# Altium footprint library footprintLIB.PcbLib: 49 footprints (part 2 of 4)
Each footprint in its own frame and in the unit in brackets; x right, y up, seen from the top. Pads: shape width x height; smd on the part's side, far side on the other; paste and mask are expansions set on the pad; w line width, h text height; cw(c..) or ccw(c..) is an arc to the next point about the centre after c.
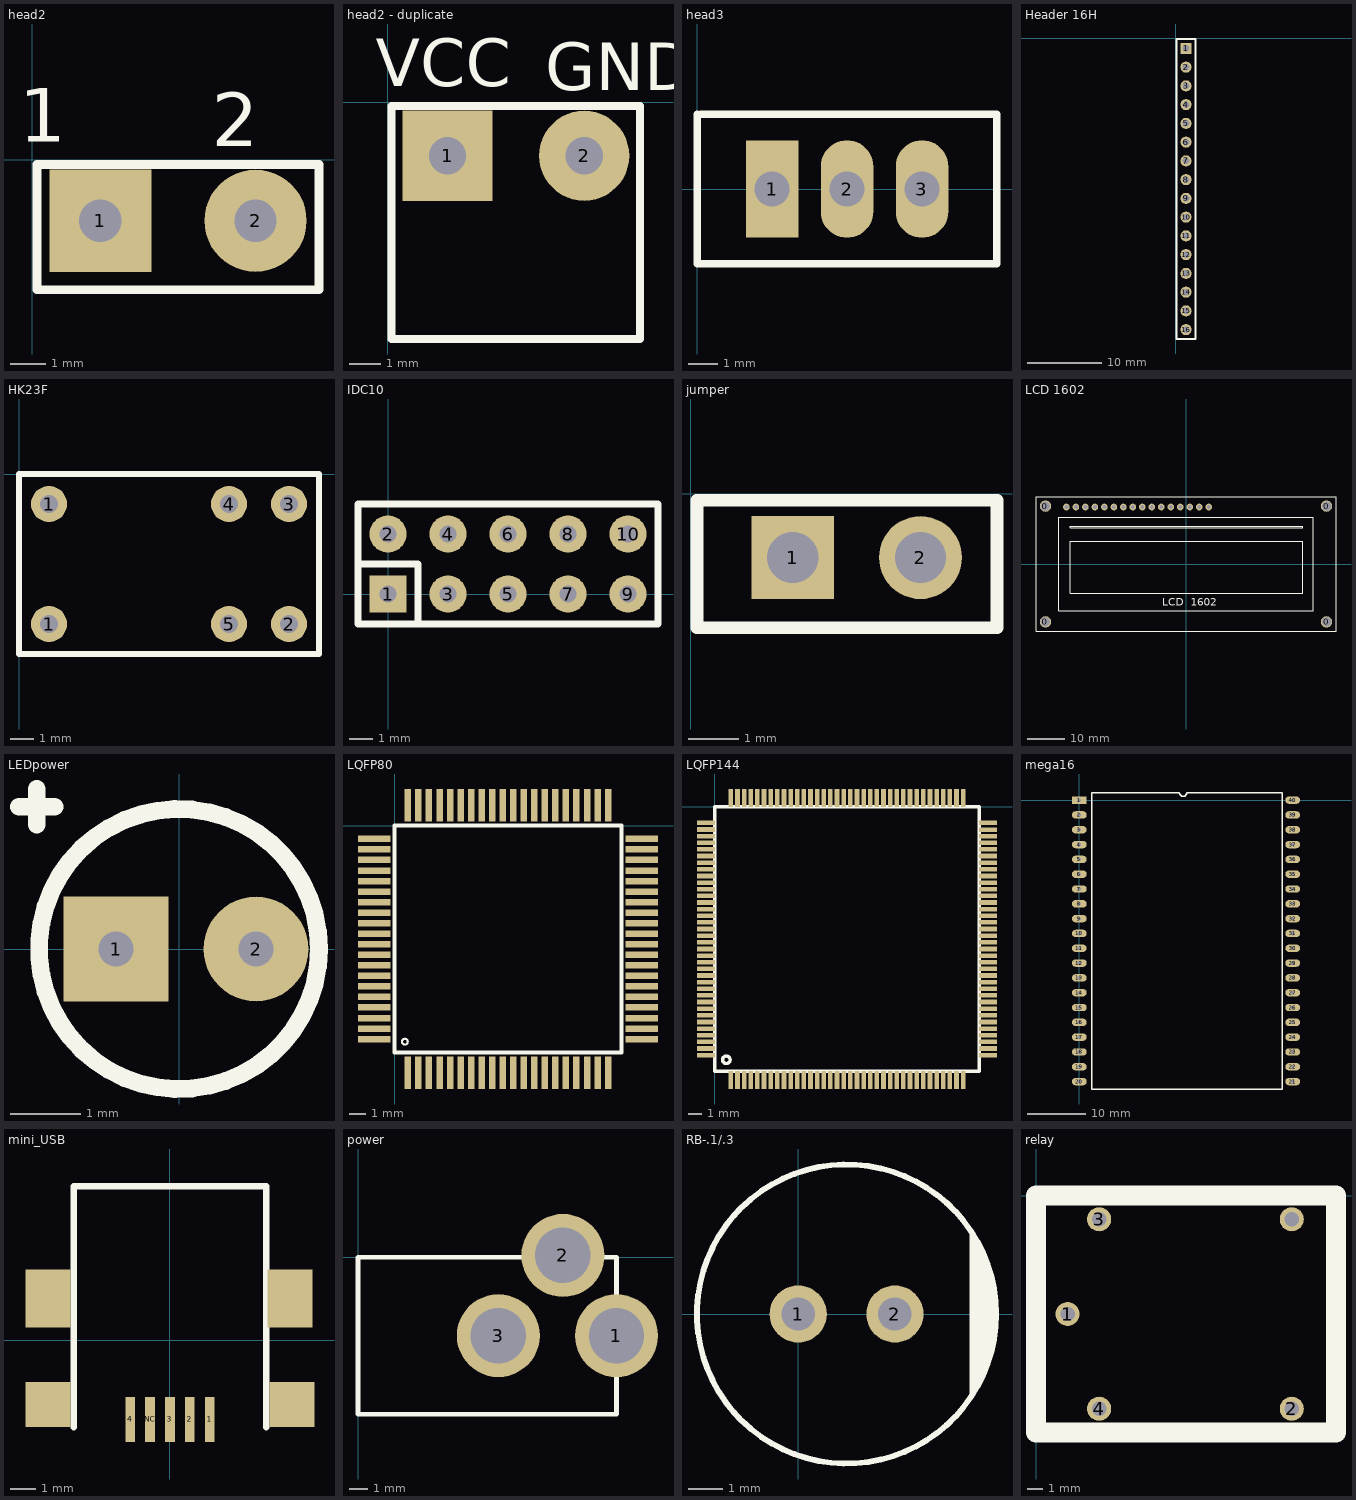
[diagram p1: the footprints below, top view; thin cyan lines are the x and y axes]

## head2 [mm]
pads (2):
  rect 2.9x2.9 hole 1.2: 1(1.927,-1.727)
  round 2.9 hole 1.2: 2(6.327,-1.727)
Top Overlay:
  lines w0.254: 0.127,-3.683 0.127,-0.127 8.127,-0.127 ; 0.128,-3.683 8.128,-3.683 8.128,-0.127
  text "2" at 5.08,0.381 h1.52
  text "1" at -0.381,0.508 h1.52

## head2 - duplicate [mm]
pads (2):
  rect 2.9x2.9 hole 1.2: 1(1.927,-1.727)
  round 2.9 hole 1.2: 2(6.327,-1.727)
Top Overlay:
  lines w0.254: 0.127,-7.627 8.127,-7.627 8.127,-0.127 0.127,-0.127 0.127,-7.627
  text "GND" at 5.08,0.381 h1.52
  text "VCC" at -0.381,0.508 h1.52

## head3 [mil]
pads (3):
  rect 70x130 hole 47.24: 1(100,0)
  oval 70x130 hole 47.24: 2(200,0) 3(300,0)
Top Overlay:
  lines w10: 0,100 0,-100 400,-100 400,100 5,100

## Header 16H [mm]
pads (16):
  rect 1.5x1.5 hole 0.9: 1(1.397,-1.397)
  round 1.5 hole 0.9: 2(1.397,-3.937) 3(1.397,-6.477) 4(1.397,-9.017) 5(1.397,-11.557) 6(1.397,-14.097) 7(1.397,-16.637) 8(1.397,-19.177) 9(1.397,-21.717) 10(1.397,-24.257) 11(1.397,-26.797) 12(1.397,-29.337) 13(1.397,-31.877) 14(1.397,-34.417) 15(1.397,-36.957) 16(1.397,-39.497)
Top Overlay:
  lines w0.254: 0.127,-40.767 0.127,-0.127 2.667,-0.127 2.667,-40.767 0.127,-40.767

## HK23F [mil]
pads (6):
  round 60 hole 30: 1(50,-250) 2(450,-250) 3(450,-50) 4(350,-50) 5(350,-250)
  round 60 hole 30 square: 1(50,-50)
Top Overlay:
  lines w10: 0,-300 500,-300 500,0 0,0 0,-300

## IDC10 [mil]
pads (10):
  rect 62x62 hole 28: 1(0,0)
  round 62 hole 28: 2(0,100) 3(100,0) 4(100,100) 5(200,0) 6(200,100) 7(300,0) 8(300,100) 9(400,0) 10(400,100)
Top Overlay:
  lines w12: -50,50 50,50 50,-50 ; -50,-50 450,-50 450,150 -50,150 -50,-50

## jumper [mil]
pads (2):
  rect 65x65 hole 40: 1(80,-50)
  round 65 hole 40: 2(180,-50)
Top Overlay:
  lines w10: 5,-105 5,-5 240,-5 240,-105 5.04,-105

## LCD 1602 [mil] "www.ouravr.com"
pads (20):
  round 120 hole 100: 0(-1480,-610) 0(-1480,610) 0(1480,-610) 0(1480,610)
  round 70 hole 40: 1(-1260,600) 2(-1160,600) 3(-1060,600) 4(-960,600) 5(-860,600) 6(-760,600) 7(-660,600) 8(-560,600) 9(-460,600) 10(-360,600) 11(-260,600) 12(-160,600) 13(-60,600) 14(40,600) 15(140,600) 16(240,600)
Top Overlay:
  lines w7.87: -1580,-710 1580,-710 1580,710 -1580,710 -1580,-710 ; -1340,-490 1340,-490 1340,490 -1340,490 -1340,-490 ; -1220,-310 1230,-310 1230,240 -1220,240 -1220,-310 ; -1220,380 -1220,400 1230,400 1230,380 -1220,380
  text "LCD  1602" at -250,-440 h80

## LEDpower [mm]
pads (2):
  rect 1.5x1.5 hole 0.5: 1(-0.9,0)
  round 1.5 hole 0.5: 2(1.1,0)
Top Overlay:
  circle w0.254: c0,0 r2
  lines w0.254: -2.286,2.032 -1.778,2.032 ; -2.032,1.778 -2.032,2.286

## LQFP80 [mm]
pads (80):
  rect 0.4x2 smd: 1(0.825,-15.254) 2(1.475,-15.254) 3(2.125,-15.254) 4(2.775,-15.254) 5(3.425,-15.254) 6(4.075,-15.254) 7(4.725,-15.254) 8(5.375,-15.254) 9(6.025,-15.254) 10(6.675,-15.254) 11(7.325,-15.254) 12(7.975,-15.254) 13(8.625,-15.254) 14(9.275,-15.254) 15(9.925,-15.254) 16(10.575,-15.254) 17(11.225,-15.254) 18(11.875,-15.254) 19(12.525,-15.254) 20(13.175,-15.254) 41(13.175,1.254) 42(12.525,1.254) 43(11.875,1.254) 44(11.225,1.254) 45(10.575,1.254) 46(9.925,1.254) 47(9.275,1.254) 48(8.625,1.254) 49(7.975,1.254) 50(7.325,1.254) 51(6.675,1.254) 52(6.025,1.254) 53(5.375,1.254) 54(4.725,1.254) 55(4.075,1.254) 56(3.425,1.254) 57(2.775,1.254) 58(2.125,1.254) 59(1.475,1.254) 60(0.825,1.254)
  rect 2x0.4 smd: 21(15.254,-13.175) 22(15.254,-12.525) 23(15.254,-11.875) 24(15.254,-11.225) 25(15.254,-10.575) 26(15.254,-9.925) 27(15.254,-9.275) 28(15.254,-8.625) 29(15.254,-7.975) 30(15.254,-7.325) 31(15.254,-6.675) 32(15.254,-6.025) 33(15.254,-5.375) 34(15.254,-4.725) 35(15.254,-4.075) 36(15.254,-3.425) 37(15.254,-2.775) 38(15.254,-2.125) 39(15.254,-1.475) 40(15.254,-0.825) 61(-1.254,-0.825) 62(-1.254,-1.475) 63(-1.254,-2.125) 64(-1.254,-2.775) 65(-1.254,-3.425) 66(-1.254,-4.075) 67(-1.254,-4.725) 68(-1.254,-5.375) 69(-1.254,-6.025) 70(-1.254,-6.675) 71(-1.254,-7.325) 72(-1.254,-7.975) 73(-1.254,-8.625) 74(-1.254,-9.275) 75(-1.254,-9.925) 76(-1.254,-10.575) 77(-1.254,-11.225) 78(-1.254,-11.875) 79(-1.254,-12.525) 80(-1.254,-13.175)
Top Overlay:
  circle w0.127: c0.635,-13.335 r0.18
  lines w0.254: 0,-14 0,0 14,0 14,-14 0,-14

## LQFP144 [mm]
pads (144):
  rect 0.35x1.35 smd: 1(1.2,-20.575) 2(1.7,-20.575) 3(2.2,-20.575) 4(2.7,-20.575) 5(3.2,-20.575) 6(3.7,-20.575) 7(4.2,-20.575) 8(4.7,-20.575) 9(5.2,-20.575) 10(5.7,-20.575) 11(6.2,-20.575) 12(6.7,-20.575) 13(7.2,-20.575) 14(7.7,-20.575) 15(8.2,-20.575) 16(8.7,-20.575) 17(9.2,-20.575) 18(9.7,-20.575) 19(10.2,-20.575) 20(10.7,-20.575) 21(11.2,-20.575) 22(11.7,-20.575) 23(12.2,-20.575) 24(12.7,-20.575) 25(13.2,-20.575) 26(13.7,-20.575) 27(14.2,-20.575) 28(14.7,-20.575) 29(15.2,-20.575) 30(15.7,-20.575) 31(16.2,-20.575) 32(16.7,-20.575) 33(17.2,-20.575) 34(17.7,-20.575) 35(18.2,-20.575) 36(18.7,-20.575) 73(18.7,0.675) 74(18.2,0.675) 75(17.7,0.675) 76(17.2,0.675) 77(16.7,0.675) 78(16.2,0.675) 79(15.7,0.675) 80(15.2,0.675) 81(14.7,0.675) 82(14.2,0.675) 83(13.7,0.675) 84(13.2,0.675) 85(12.7,0.675) 86(12.2,0.675) 87(11.7,0.675) 88(11.2,0.675) 89(10.7,0.675) 90(10.2,0.675) 91(9.7,0.675) 92(9.2,0.675) 93(8.7,0.675) 94(8.2,0.675) 95(7.7,0.675) 96(7.2,0.675) 97(6.7,0.675) 98(6.2,0.675) 99(5.7,0.675) 100(5.2,0.675) 101(4.7,0.675) 102(4.2,0.675) 103(3.7,0.675) 104(3.2,0.675) 105(2.7,0.675) 106(2.2,0.675) 107(1.7,0.675) 108(1.2,0.675)
  rect 1.35x0.35 smd: 37(20.575,-18.7) 38(20.575,-18.2) 39(20.575,-17.7) 40(20.575,-17.2) 41(20.575,-16.7) 42(20.575,-16.2) 43(20.575,-15.7) 44(20.575,-15.2) 45(20.575,-14.7) 46(20.575,-14.2) 47(20.575,-13.7) 48(20.575,-13.2) 49(20.575,-12.7) 50(20.575,-12.2) 51(20.575,-11.7) 52(20.575,-11.2) 53(20.575,-10.7) 54(20.575,-10.2) 55(20.575,-9.7) 56(20.575,-9.2) 57(20.575,-8.7) 58(20.575,-8.2) 59(20.575,-7.7) 60(20.575,-7.2) 61(20.575,-6.7) 62(20.575,-6.2) 63(20.575,-5.7) 64(20.575,-5.2) 65(20.575,-4.7) 66(20.575,-4.2) 67(20.575,-3.7) 68(20.575,-3.2) 69(20.575,-2.7) 70(20.575,-2.2) 71(20.575,-1.708) 72(20.575,-1.2) 109(-0.675,-1.2) 110(-0.675,-1.7) 111(-0.675,-2.2) 112(-0.675,-2.7) 113(-0.675,-3.2) 114(-0.675,-3.7) 115(-0.675,-4.2) 116(-0.675,-4.7) 117(-0.675,-5.2) 118(-0.675,-5.7) 119(-0.675,-6.2) 120(-0.675,-6.7) 121(-0.675,-7.2) 122(-0.675,-7.7) 123(-0.675,-8.2) 124(-0.675,-8.7) 125(-0.675,-9.2) 126(-0.675,-9.7) 127(-0.675,-10.2) 128(-0.675,-10.7) 129(-0.675,-11.2) 130(-0.675,-11.7) 131(-0.675,-12.2) 132(-0.675,-12.7) 133(-0.675,-13.2) 134(-0.675,-13.7) 135(-0.675,-14.2) 136(-0.675,-14.7) 137(-0.675,-15.2) 138(-0.675,-15.7) 139(-0.675,-16.2) 140(-0.675,-16.7) 141(-0.675,-17.2) 142(-0.675,-17.7) 143(-0.675,-18.2) 144(-0.675,-18.7)
Top Overlay:
  circle w0.254: c0.859,-19.05 r0.284
  lines w0.254: 0,-19.9 0,0 19.9,0 19.9,-19.9 0,-19.9

## mega16 [mil]
pads (40):
  rect 100x50 hole 25: 1(0,0)
  oval 100x50 hole 25: 2(0,-100) 3(0,-200) 4(0,-300) 5(0,-400) 6(0,-500) 7(0,-600) 8(0,-700) 9(0,-800) 10(0,-900) 11(0,-1000) 12(0,-1100) 13(0,-1200) 14(0,-1300) 15(0,-1400) 16(0,-1500) 17(0,-1600) 18(0,-1700) 19(0,-1800) 20(0,-1900) 21(1440,-1900) 22(1440,-1800) 23(1440,-1700) 24(1440,-1600) 25(1440,-1500) 26(1440,-1400) 27(1440,-1300) 28(1440,-1200) 29(1440,-1100) 30(1440,-1000) 31(1440,-900) 32(1440,-800) 33(1440,-700) 34(1440,-600) 35(1440,-500) 36(1440,-400) 37(1440,-300) 38(1440,-200) 39(1440,-100) 40(1440,0)
Top Overlay:
  lines w10: 85,-1950 1370,-1950 1370,50 725,50 cw(c700,50) 675,50 85,50 85,-1950

## mini_USB [mil]
pads (9):
  rect 15x70 smd: 1(62,-123) 2(31,-123) 3(0,-123) 4(-62,-123) NC(-31,-123)
  rect 70x70 smd: ""(-190,-100) ""(190,-100)
  rect 70x90 smd: ""(-190,65) ""(187,65)
Top Overlay:
  lines w10: -150,-135 -150,240 150,240 150,-135

## power [mm]
pads (3):
  round 4.5 hole 3: 1(14,-4.25) 2(11.1,0.1) 3(7.6,-4.25)
Top Overlay:
  lines w0.254: 0,-8.5 0,0 14,0 14,-8.5 0,-8.5

## RB-.1/.3 [mil] "47uF 100uF 220uF 470uF"
pads (2):
  round 65 hole 38: 1(0,0) 2(110,0)
Top Overlay:
  circle w6.69: c55,0 r170
  region: 195,97 195,-95 219,-47 226,13 215,58 195,97

## relay [mil]
pads (5):
  round 60 hole 36: 1(78.74,-295.28) 2(637.8,-531.5) 3(157.48,-59.06) 4(157.48,-531.5) ""(637.8,-59.06)
Top Overlay:
  lines w50: 0,-590.55 748.03,-590.55 748.03,0 0,0 0,-590.55